# EAGLE library part L5973D (library MD TOSHIBA)
L5973D Series 36 V 2.5 A Switch Step Down Switching Regulator SMT - HSOP-8 Check prices <https://pricing.snapeda.com/parts/L5973D/STMicroelectronics/view-part?ref=eda>
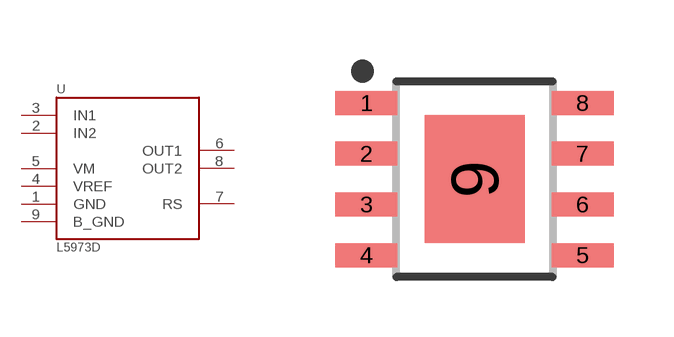
[diagram p0: symbol with the pads of SOIC127P600X170-9N; footprint SOIC127P600X170-9N]

Designator prefix U

## L5973D (AVAILABILITY: In Stock; DESCRIPTION: Buck Switching Regulator IC Positive Adjustable 1.235V 1 Output 2.5A 8-SOIC (0.154, 3.90mm Width) Exposed Pad; MF: STMicroelectronics; MP: L5973D; PACKAGE: HSOP-8 STMicroelectronics; PRICE: None; PURCHASE-URL: https://pricing.snapeda.com/search/part/L5973D/?ref=eda)  [SOIC127P600X170-9N]
1  GND  out
2  IN2
3  IN1  in
4  VREF  out
5  VM  in
6  OUT1  pwr
7  RS  pwr
8  OUT2  pwr
9  B_GND  pwr

## Footprint SOIC127P600X170-9N (pad centres in mm)
smd 1.55 x 0.6: 1 -2.7,1.905; 2 -2.7,0.635; 3 -2.7,-0.635; 4 -2.7,-1.905; 5 2.7,-1.905; 6 2.7,-0.635; 7 2.7,0.635; 8 2.7,1.905
smd 2.5 x 3.2: 9 0,0